# Altium footprint library CAPAE660X800N.PcbLib: 2 footprints
Each footprint in its own frame and in the unit in brackets; x right, y up, seen from the top. Pads: shape width x height; smd on the part's side, far side on the other; paste and mask are expansions set on the pad; w line width, h text height; cw(c..) or ccw(c..) is an arc to the next point about the centre after c.
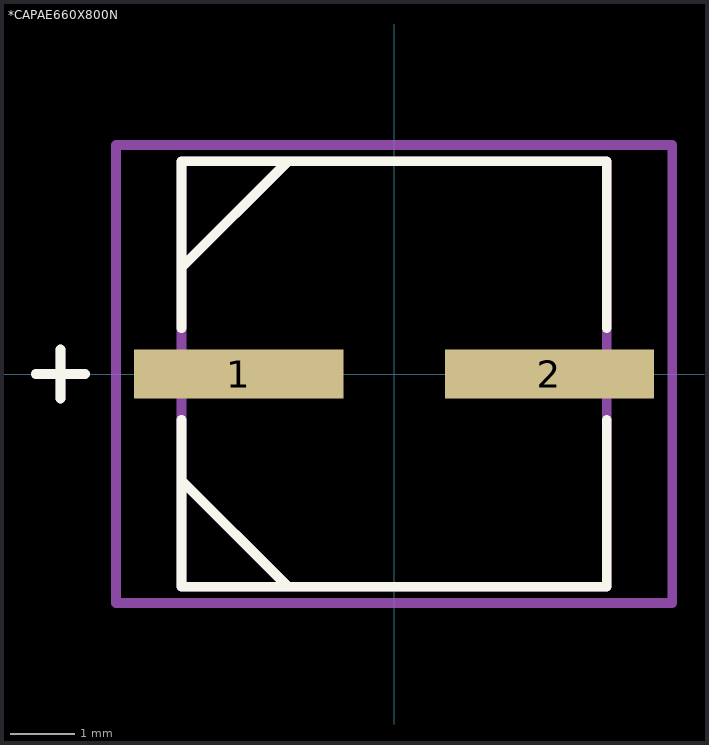
[diagram p0: the footprints below, top view; thin cyan lines are the x and y axes]

## *CAPAE660X800N [mil]
pads (2):
  rect 128x30 smd: 1(-95,0) 2(95,0)
Top Overlay:
  lines w6: -219,0 -189,0 ; -204,-15 -204,15 ; -130,-28 -130,-65 ; -130,28 -130,130 130,130 130,28 ; -130,65 -65,130 ; -65,-130 -130,-65 ; 130,-28 130,-130 -130,-130 -130,-65
Mechanical 4:
  lines w6: -130,-130 -130,130 ; -130,-130 130,-130 ; -130,-130 -130,130 ; -130,-130 130,-130 ; -130,130 130,130 ; -130,130 130,130 ; 130,-130 130,130 ; 130,-130 130,130 ; -219,0 -189,0 -219,0 ; -204,-15 -204,15 -204,-15 ; -130,-65 -65,-130 -130,-65 ; -130,65 -65,130 -130,65
Mechanical 16:
  lines w6: -170,-140 -170,140 170,140 170,-140 -170,-140

## PCBComponent_1 [mil]